# Altium schematic symbol library 舱内通信板.SCHLIB: 14 symbols
Pins are listed as number, name and electrical type; pins without a type are passive.

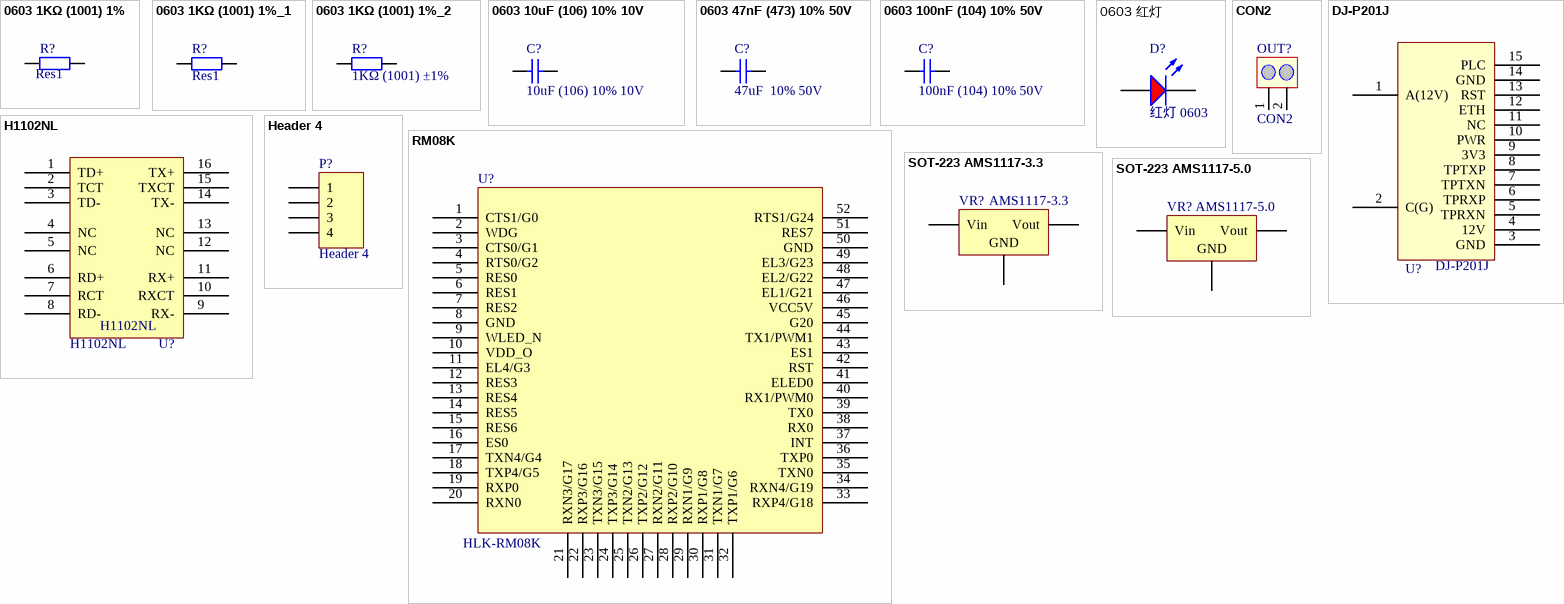
[diagram p0: symbols 0603 1KΩ (1001) 1% to SOT-223 AMS1117-5.0]

## 0603 1KΩ (1001) 1%
designator R?, comment Res1
贴片电阻; ComponentLink1Description: 供应商链接; ComponentLink1URL: http://www.szlcsc.com/product/details_21904.html; Package: 0603; Supplier: LC; SuppliersPartNumber: C21190
footprint 0603_R
footprint R0603
pins: 1, 2

## 0603 1KΩ (1001) 1%_1
designator R?, comment Res1
贴片电阻; ComponentLink1Description: 供应商链接; ComponentLink1URL: http://www.szlcsc.com/product/details_21904.html; Package: 0603; Supplier: LC; SuppliersPartNumber: C21190
footprint 0603_R
footprint R0603
pins: 1, 2

## 0603 1KΩ (1001) 1%_2
designator R?, comment 1KΩ (1001) ±1%
贴片电阻; ComponentLink1Description: 供应商链接; ComponentLink1URL: http://www.szlcsc.com/product/details_21904.html; Package: 0603; Supplier: LC; SuppliersPartNumber: C21190
footprint LC-0603_R
pins: 1, 2

## 0603 10uF (106) 10% 10V
designator C?, comment 10uF (106) 10% 10V
贴片电容; ComponentLink1Description: 供应商链接; ComponentLink1URL: http://www.szlcsc.com/product/details_20411.html; Package: 0603; Supplier: LC; SuppliersPartNumber: C19702
footprint LC-0603_C
pins: 1, 2

## 0603 47nF (473) 10% 50V
designator C?, comment 47uF  10% 50V
贴片电容; ComponentLink1Description: 供应商链接; ComponentLink1URL: http://www.szlcsc.com/product/details_1974.html; Package: 0603; Supplier: LC; SuppliersPartNumber: C1622
footprint LC-0603_C
pins: 1, 2

## 0603 100nF (104) 10% 50V
designator C?, comment 100nF (104) 10% 50V
贴片电容; ComponentLink1Description: 供应商链接; ComponentLink1URL: http://www.szlcsc.com/product/details_15331.html; Package: 0603; Supplier: LC; SuppliersPartNumber: C14663
footprint LC-0603_C
pins: 1, 2

## 0603 红灯
designator D?, comment 红灯 0603
发光二极管; ComponentLink1Description: 供应商链接; ComponentLink1URL: http://www.szlcsc.com/product/details_2659.html; Package: 0603; Supplier: LC; SuppliersPartNumber: C2286
footprint LC-0603_LED_S1
pins: A, K

## CON2
designator OUT?
footprint HDR-2 (二脚电源接口)
pins: 1 (power), 2 (power)

## DJ-P201J
designator U?
电力载波
footprint DJ-P201J
pins: 1 A(12V), 2 C(G), 3 GND, 4 12V, 5 TPRXN, 6 TPRXP, 7 TPTXN, 8 TPTXP, 9 3V3, 10 PWR, 11 NC, 12 ETH, 13 RST, 14 GND, 15 PLC

## H1102NL
designator U?
网口变压器
footprint H1102NL
pins: 1 TD+, 2 TCT, 3 TD-, 4 NC, 5 NC, 6 RD+, 7 RCT, 8 RD-, 9 RX-, 10 RXCT, 11 RX+, 12 NC, 13 NC, 14 TX-, 15 TXCT, 16 TX+

## Header 4
designator P?
Header, 4-Pin; LatestRevisionDate: 17-Jul-2002; LatestRevisionNote: Re-released for DXP Platform.; Publisher: Altium Limited
signal-integrity model Connector
footprint Molex-4
footprint 网口插座
pins: 1, 2, 3, 4

## RM08K
designator U?, comment HLK-RM08K
RM08K WIFI MODEL
footprint RM08K_SMT (Footprint not found)
footprint RM08K_SMT (Footprint not found)
footprint RM08k
footprint RM08K_52pin
footprint Model Name (Footprint not found)
footprint Model Name (Footprint not found)
pins: 1 CTS1/G0, 2 WDG, 3 CTS0/G1, 4 RTS0/G2, 5 RES0, 6 RES1, 7 RES2, 8 GND, 9 WLED_N, 10 VDD_O, 11 EL4/G3, 12 RES3, 13 RES4, 14 RES5, 15 RES6, 16 ES0, 17 TXN4/G4, 18 TXP4/G5, 19 RXP0, 20 RXN0, 21 RXN3/G17, 22 RXP3/G16, 23 TXN3/G15, 24 TXP3/G14, 25 TXN2/G13, 26 TXP2/G12, 27 RXN2/G11, 28 RXP2/G10, 29 RXN1/G9, 30 RXP1/G8, 31 TXN1/G7, 32 TXP1/G6, 33 RXP4/G18, 34 RXN4/G19, 35 TXN0, 36 TXP0, 37 INT, 38 RX0, 39 TX0, 40 RX1/PWM0, 41 ELED0, 42 RST, 43 ES1, 44 TX1/PWM1, 45 G20, 46 VCC5V, 47 EL1/G21, 48 EL2/G22, 49 EL3/G23, 50 GND, 51 RES7, 52 RTS1/G24

## SOT-223 AMS1117-3.3
designator VR?, comment AMS1117-3.3
低压差线性稳压(LDO); ComponentLink1Description: 供应商链接; ComponentLink1URL: http://www.szlcsc.com/product/details_6652.html; Package: SOT-223; Supplier: LC; SuppliersPartNumber: C6186
footprint LC-SOT-223
pins: 1 GND, 2 Vout, 3 Vin

## SOT-223 AMS1117-5.0
designator VR?, comment AMS1117-5.0
低压差线性稳压(LDO); ComponentLink1Description: 供应商链接; ComponentLink1URL: http://www.szlcsc.com/product/details_6653.html; Package: SOT-223; Supplier: LC; SuppliersPartNumber: C6187
footprint LC-SOT-223
pins: 1 GND, 2 Vout, 3 Vin